# Altium footprint library lib_shielding.PcbLib: 1 footprints
Each footprint in its own frame and in the unit in brackets; x right, y up, seen from the top. Pads: shape width x height; smd on the part's side, far side on the other; paste and mask are expansions set on the pad; w line width, h text height; cw(c..) or ccw(c..) is an arc to the next point about the centre after c.
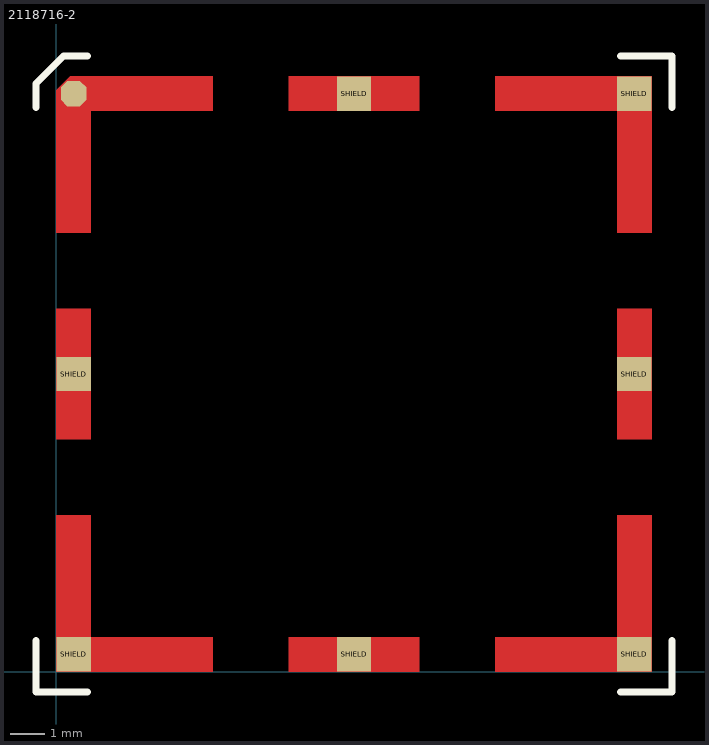
[diagram p0: the footprint, top view; thin cyan lines are the x and y axes]

## 2118716-2 [mm] "STD SHIELD FRAME, CRS-16.50X16.50X3.60MM, TE connectivity"
pads (8):
  rect 1x1 smd: SHIELD(0.5,0.5) SHIELD(0.5,8.65) SHIELD(8.65,0.5) SHIELD(8.65,16.8) SHIELD(16.8,0.5) SHIELD(16.8,8.65) SHIELD(16.8,16.8)
  oct 0.75x0.75 smd: SHIELD(0.5,16.8)
Top Layer:
  region: 4.55,16.3 1,16.3 1,12.75 0,12.75 0,16.9 0.4,17.3 4.55,17.3
  region: 10.55,17.3 10.55,16.3 6.75,16.3 6.75,17.3
  region: 17.3,6.75 16.3,6.75 16.3,10.55 17.3,10.55
  region: 17.3,17.3 17.3,12.75 16.3,12.75 16.3,16.3 12.75,16.3 12.75,17.3
  region: 1,6.75 0,6.75 0,10.55 1,10.55
  region: 17.3,0 17.3,4.55 16.3,4.55 16.3,1 12.75,1 12.75,0
  region: 6.75,0 6.75,1 10.55,1 10.55,0
  region: 0,0 0,4.55 1,4.55 1,1 4.55,1 4.55,0
  region: 0,0
Top Overlay:
  lines w0.2: -0.6,0.9 -0.6,-0.6 0.9,-0.6 ; -0.6,16.4 -0.6,17.1 0.2,17.9 0.9,17.9 ; 16.4,-0.6 17.9,-0.6 17.9,0.9 ; 16.4,17.9 17.9,17.9 17.9,16.4
3D body "c-2118716-2-a-3d.stp": height 3.6, standoff 0, extent 0.4,0.4 16.9,16.9